# Altium footprint library PcbLib1.PcbLib: 224 footprints (part 2 of 14)
Each footprint in its own frame and in the unit in brackets; x right, y up, seen from the top. Pads: shape width x height; smd on the part's side, far side on the other; paste and mask are expansions set on the pad; w line width, h text height; cw(c..) or ccw(c..) is an arc to the next point about the centre after c.
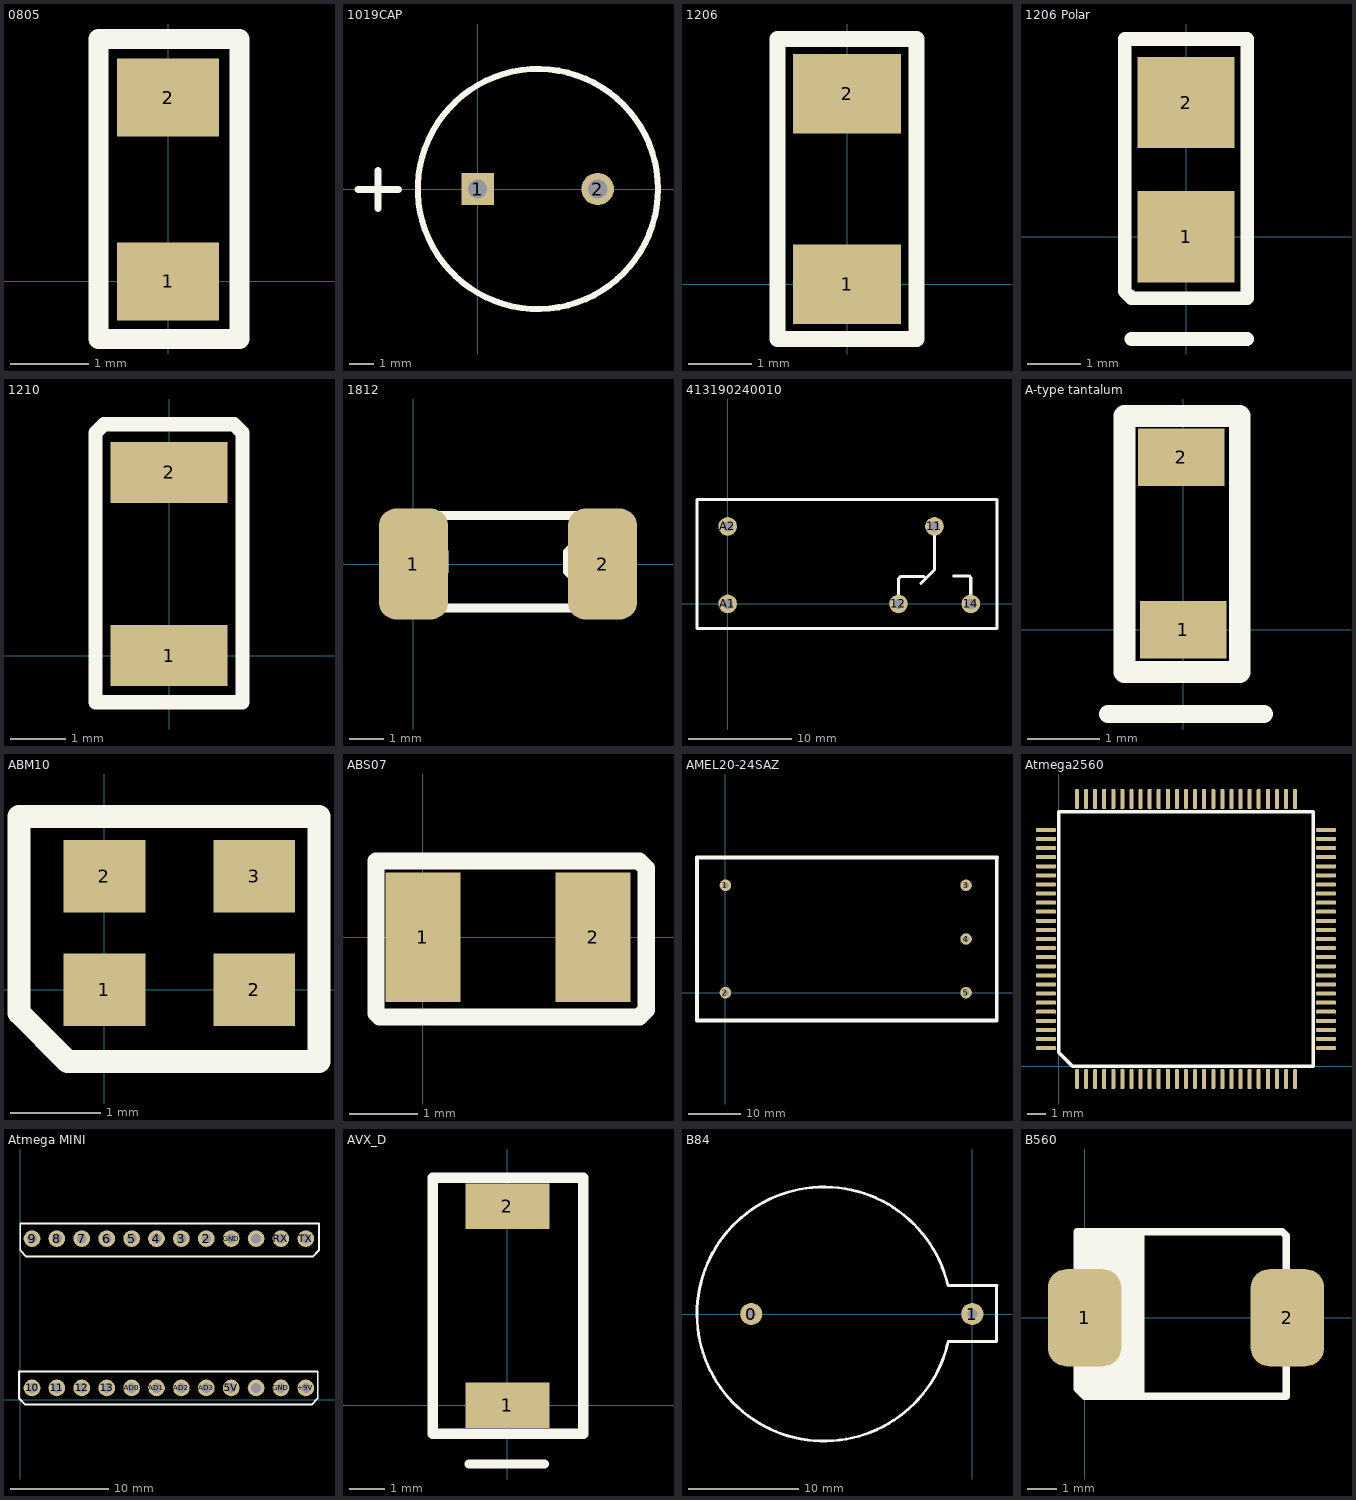
[diagram p1: the footprints below, top view; thin cyan lines are the x and y axes]

## 0805 [mm]
height 1
pads (2):
  rect 1.3x1 smd: 1(0,0) 2(0,2.35)
Top Overlay:
  lines w0.254: -0.889,-0.737 -0.889,3.099 0.914,3.099 0.914,-0.737 -0.889,-0.737

## 1019CAP [mm]
height 19
pads (2):
  rect 1.35x1.35 hole 0.8: 1(0,0)
  round 1.35 hole 0.8: 2(5.004,0)
Top Overlay:
  circle w0.254: c2.515,0 r5
  lines w0.3: -4.978,-0.025 -3.302,-0.025 ; -4.14,-0.813 -4.14,0.762

## 1206 [mm]
height 2
pads (2):
  rect 1.7x1.25 smd: 1(0,0) 2(0,3)
Top Overlay:
  lines w0.254: -1.092,-0.864 1.092,-0.864 1.092,3.861 -1.092,3.861 -1.092,-0.864

## 1206 Polar [mm]
height 1
pads (2):
  rect 1.8x1.7 smd: 1(0,0) 2(0,2.5)
Top Overlay:
  lines w0.254: -1.016,-1.905 1.143,-1.905 ; -1.143,-1.016 -1.143,3.683 1.143,3.683 1.143,-1.143 -1.016,-1.143 -1.143,-1.016
3D body: height 2, standoff 0, extent -1.002,-0.952 1.002,3.452

## 1210 [mm]
height 2
pads (2):
  rect 2.1x1.1 smd: 1(0,0) 2(0,3.3)
Top Overlay:
  lines w0.254: -1.321,-0.838 -1.321,4.013 -1.168,4.166 1.168,4.166 1.321,4.013 1.321,-0.838 -1.321,-0.838

## 1812 [mm]
height 2
pads (2):
  rrect50% 2x3.2 smd: 1(0,0) 2(5.45,0)
Top Overlay:
  lines w0.254: 0.508,-1.27 4.826,-1.27 4.826,-0.603 4.445,-0.222 4.445,0.349 4.826,0.73 4.826,1.397 0.508,1.397 0.508,0.73 0.889,0.349 0.889,-0.222 0.508,-0.603 0.508,-1.27

## 413190240010 [mm] "Finder"
height 16
pads (5):
  round 1.8 hole 1: 11(19.99,7.5) 12(16.51,0) 14(23.5,0) A1(0,0) A2(0,7.493)
Top Overlay:
  lines w0.3: 16.51,0 16.51,2.438 16.739,2.667 18.948,2.667 ; 18.669,1.981 19.99,3.302 19.99,7.5 ; 21.819,2.718 23.343,2.718 23.5,2.56 23.5,0 ; -2.972,-2.388 26.035,-2.388 26.035,10.112 -2.972,10.112 -2.972,-2.388

## A-type tantalum [mm]
height 2
pads (2):
  rect 1.2x0.8 smd: 1(0,0) 2(-0.025,2.4)
Top Overlay:
  lines w0.254: -1.041,-1.168 1.118,-1.168
  lines w0.3: -0.817,-0.584 0.783,-0.584 0.783,2.972 -0.817,2.972 -0.817,-0.584

## ABM10 [mm]
height 1
pads (4):
  rect 0.9x0.8 smd: 1(0,0) 2(0,1.25) 2(1.65,0) 3(1.65,1.25)
Top Overlay:
  lines w0.254: -0.94,-0.254 -0.94,1.905 2.362,1.905 2.362,-0.787 -0.406,-0.787 -0.94,-0.254

## ABS07 [mm]
height 1
pads (2):
  rect 1.1x1.9 smd: 1(0,0) 2(2.5,0)
Top Overlay:
  lines w0.254: -0.686,-1.118 -0.635,-1.168 3.175,-1.168 3.277,-1.067 3.277,1.016 3.175,1.118 -0.686,1.118 -0.686,-1.118

## AMEL20-24SAZ [mm]
height 25
pads (5):
  round 2.2 hole 1.1: 1(0,20.4) 2(0,0) 3(45.72,20.4) 4(45.72,10.2) 5(45.72,0)
Top Overlay:
  lines w0.7: -5.4,-5.3 -5.4,25.7 51.6,25.7 51.572,25.672 51.572,-5.3 -5.4,-5.3

## Atmega2560 [mm]
pads (100):
  rrect50% 0.22x1.1 smd paste+0 mask+0.05: 1(1,-0.7) 3(2,-0.7) 5(3,-0.7) 7(4,-0.7) 9(5,-0.7) 11(6,-0.7) 13(7,-0.7) 15(8,-0.7) 17(9,-0.7) 19(10,-0.7) 21(11,-0.7) 23(12,-0.7) 25(13,-0.7) 51(13,14.7) 53(12,14.7) 55(11,14.7) 57(10,14.7) 59(9,14.7) 61(8,14.7) 63(7,14.7) 65(6,14.7) 67(5,14.7) 69(4,14.7) 71(3,14.7) 73(2,14.7) 75(1,14.7)
  rrect50% 0.22x1.1 smd mask+0.05: 2(1.5,-0.7) 4(2.5,-0.7) 6(3.5,-0.7) 8(4.5,-0.7) 10(5.5,-0.7) 12(6.5,-0.7) 14(7.5,-0.7) 16(8.5,-0.7) 18(9.5,-0.7) 20(10.5,-0.7) 22(11.5,-0.7) 24(12.5,-0.7) 52(12.5,14.7) 54(11.5,14.7) 56(10.5,14.7) 58(9.5,14.7) 60(8.5,14.7) 62(7.5,14.7) 64(6.5,14.7) 66(5.5,14.7) 68(4.5,14.7) 70(3.5,14.7) 72(2.5,14.7) 74(1.5,14.7)
  rrect50% 1.1x0.22 smd paste+0 mask+0.05: 26(14.7,1) 28(14.7,2) 30(14.7,3) 32(14.7,4) 34(14.7,5) 36(14.7,6) 38(14.7,7) 40(14.7,8) 42(14.7,9) 44(14.7,10) 46(14.7,11) 48(14.7,12) 50(14.7,13) 76(-0.7,13) 78(-0.7,12) 80(-0.7,11) 82(-0.7,10) 84(-0.7,9) 86(-0.7,8) 88(-0.7,7) 90(-0.7,6) 92(-0.7,5) 94(-0.7,4) 96(-0.7,3) 98(-0.7,2) 100(-0.7,1)
  rrect50% 1.1x0.22 smd mask+0.05: 27(14.7,1.5) 29(14.7,2.5) 31(14.7,3.5) 33(14.7,4.5) 35(14.7,5.5) 37(14.7,6.5) 39(14.7,7.5) 41(14.7,8.5) 43(14.7,9.5) 45(14.7,10.5) 47(14.7,11.5) 49(14.7,12.5) 77(-0.7,12.5) 79(-0.7,11.5) 81(-0.7,10.5) 83(-0.7,9.5) 85(-0.7,8.5) 87(-0.7,7.5) 89(-0.7,6.5) 91(-0.7,5.5) 93(-0.7,4.5) 95(-0.7,3.5) 97(-0.7,2.5) 99(-0.7,1.5)
Top Overlay:
  lines w0.2: 0,0.762 0,14 14,14 14,0 0.762,0 0,0.762
  text "." at 1.27,1.143 h1.52

## Atmega MINI [mm]
height 5
pads (24):
  round 1.7 hole 1: 2(18.98,16.44) 3(16.44,16.44) 4(13.9,16.44) 5(11.36,16.44) 5V(21.52,1.2) 6(8.82,16.44) 7(6.28,16.44) 8(3.74,16.44) 9(1.2,16.44) 10(1.2,1.2) 11(3.74,1.2) 12(6.28,1.2) 13(8.82,1.2) +9V(29.14,1.2) AD0(11.36,1.2) AD1(13.9,1.2) AD2(16.44,1.2) AD3(18.98,1.2) GND(21.52,16.44) GND(26.6,1.2) RESET(24.06,1.2) RESET(24.06,16.44) RX(26.6,16.44) TX(29.14,16.44)
Top Overlay:
  lines w0.2: -0.127,0.127 -0.127,2.887 30.353,2.887 30.353,0.127 29.718,-0.508 0.508,-0.508 -0.127,0.127 ; 0,15.24 0.635,14.605 29.845,14.605 30.48,15.24 30.48,18 0,18 0,15.24

## AVX_D [mm]
height 3
pads (2):
  rect 2.4x1.3 smd: 1(0,0) 2(0,5.69)
Top Overlay:
  lines w0.254: -1.092,-1.676 1.067,-1.676
  lines w0.3: -2.134,-0.813 -2.134,6.502 2.159,6.502 2.159,-0.805 2.166,-0.813 -2.134,-0.813

## B84 [mm]
pads (2):
  round 2 hole 0.9: 0(-20,0) 1(0,0)
Top Overlay:
  lines w0.254: -2.21,2.591 2.235,2.591 ; -2.207,2.591 ccw(c-13.411,0) -2.183,-2.484 ; -2.184,-2.489 2.184,-2.489
  lines w0.3: 2.184,-2.46 2.184,2.54

## B560 [mm]
pads (2):
  rrect50% 2.5x3.3 smd: 1(0,0) 2(6.9,0)
Top Overlay:
  rectangle: -0.254,-2.54 1.905,2.921
  lines w0.254: 1.905,-2.667 1.905,2.921 ; -0.254,-2.413 -0.254,2.921 6.731,2.921 6.858,2.794 6.858,-2.667 0,-2.667 -0.254,-2.413